# EAGLE library part LCD-CONTROL_8-PIN_FEMALE_HEADER (library myLib-01-Headers)
LCD-Control 8-pin FEMALE HEADER
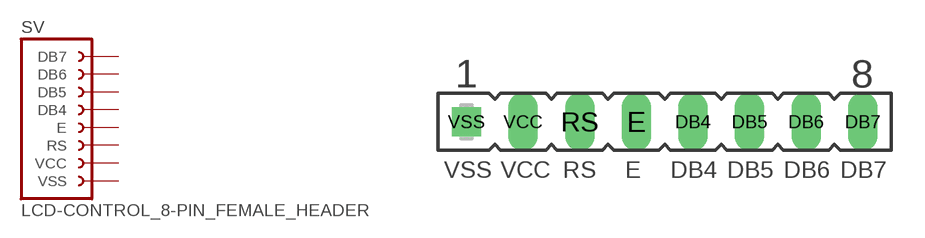
[diagram p11: symbol with the pads of LCD-CONTROL_8-PIN_FEMALE_HEADER; footprint LCD-CONTROL_8-PIN_FEMALE_HEADER]

Designator prefix SV

## LCD-CONTROL_8-PIN_FEMALE_HEADER  [LCD-CONTROL_8-PIN_FEMALE_HEADER]
DB4  DB4  pas
DB5  DB5  pas
DB6  DB6  pas
DB7  DB7  pas
E  E  pas
RS  RS  pas
VCC  VCC  pas
VSS  VSS  pas

## Footprint LCD-CONTROL_8-PIN_FEMALE_HEADER (pad centres in mm)
FEMALE HEADER
drill 0.813 long: DB4 10.16,0; DB5 12.7,0; DB6 15.24,0; DB7 17.78,0; E 7.62,0; RS 5.08,0; VCC 2.54,0
drill 0.813 square: VSS 0,0